# Altium schematic symbol library CL10B105MO8NNWC.SchLib: 2 symbols
Pins are listed as number, name and electrical type; pins without a type are passive.

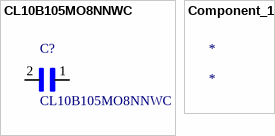
[diagram p0: symbols CL10B105MO8NNWC to Component_1]

## CL10B105MO8NNWC
designator C?
/ CL10 Series 0603 16 V 1 uF Â±20% Tolerance X7R Multilayer Ceramic Capacitor /; MF: Samsung Electro-Mechanics; MP: CL10B105MO8NNWC; Digi-Key_Purchase_URL: https://www.digikey.com.au/product-detail/en/samsung-electro-mechanics/CL10B105MO8NNWC/1276-6524-1-ND/5961383?utm_source=snapeda&utm_medium=aggregator&utm_campaign=symbol; SnapEDA_Link: https://www.snapeda.com/parts/CL10B105MO8NNWC/Samsung%20Electro-Mechanics/view-part/?ref=snap; Package: 0603 Samsung; Digi-Key_Part_Number: 1276-6524-1-ND; Value: *
footprint *CAPC1608X90N
pins: 1, 2

## Component_1
designator *